# Altium schematic symbol library ST STM32F070X6 64PIN.SchLib: 1 symbol
Pins are listed as number, name and electrical type; pins without a type are passive.

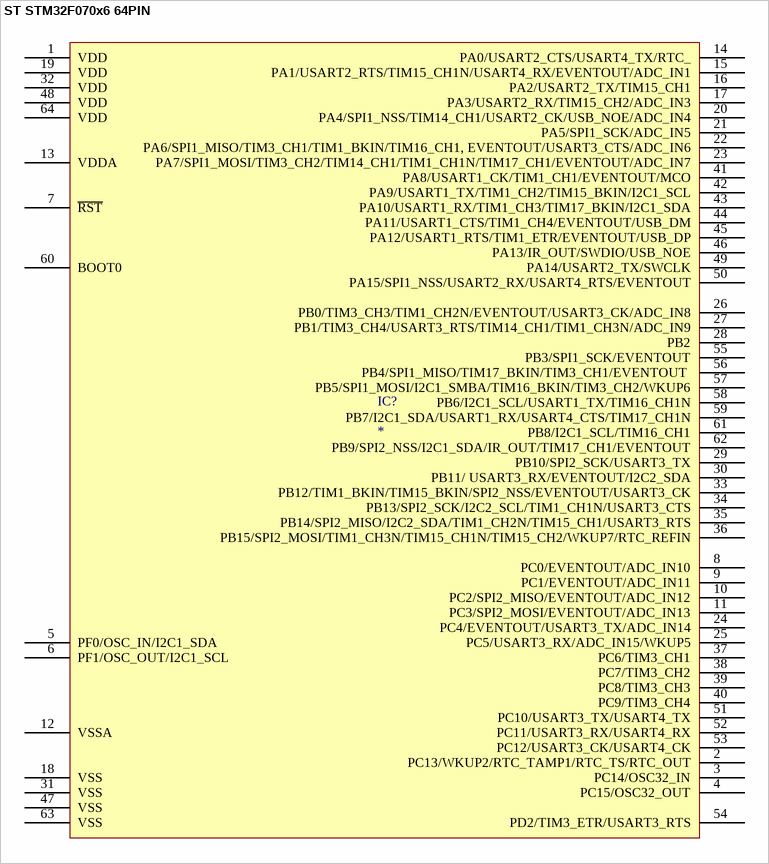
[diagram p0: symbol ST STM32F070x6 64PIN]

## ST STM32F070x6 64PIN
designator IC?
pins: 1 VDD, 2 PC13/WKUP2/RTC_TAMP1/RTC_TS/RTC_OUT, 3 PC14/OSC32_IN, 4 PC15/OSC32_OUT, 5 PF0/OSC_IN/I2C1_SDA, 6 PF1/OSC_OUT/I2C1_SCL, 7 ~{RST}, 8 PC0/EVENTOUT/ADC_IN10, 9 PC1/EVENTOUT/ADC_IN11, 10 PC2/SPI2_MISO/EVENTOUT/ADC_IN12, 11 PC3/SPI2_MOSI/EVENTOUT/ADC_IN13, 12 VSSA, 13 VDDA, 14 PA0/USART2_CTS/USART4_TX/RTC_, 15 PA1/USART2_RTS/TIM15_CH1N/USART4_RX/EVENTOUT/ADC_IN1, 16 PA2/USART2_TX/TIM15_CH1, 17 PA3/USART2_RX/TIM15_CH2/ADC_IN3, 18 VSS, 19 VDD, 20 PA4/SPI1_NSS/TIM14_CH1/USART2_CK/USB_NOE/ADC_IN4, 21 PA5/SPI1_SCK/ADC_IN5, 22 PA6/SPI1_MISO/TIM3_CH1/TIM1_BKIN/TIM16_CH1, EVENTOUT/USART3_CTS/ADC_IN6, 23 PA7/SPI1_MOSI/TIM3_CH2/TIM14_CH1/TIM1_CH1N/TIM17_CH1/EVENTOUT/ADC_IN7, 24 PC4/EVENTOUT/USART3_TX/ADC_IN14, 25 PC5/USART3_RX/ADC_IN15/WKUP5, 26 PB0/TIM3_CH3/TIM1_CH2N/EVENTOUT/USART3_CK/ADC_IN8, 27 PB1/TIM3_CH4/USART3_RTS/TIM14_CH1/TIM1_CH3N/ADC_IN9, 28 PB2, 29 PB10/SPI2_SCK/USART3_TX, 30 PB11/ USART3_RX/EVENTOUT/I2C2_SDA, 31 VSS, 32 VDD, 33 PB12/TIM1_BKIN/TIM15_BKIN/SPI2_NSS/EVENTOUT/USART3_CK, 34 PB13/SPI2_SCK/I2C2_SCL/TIM1_CH1N/USART3_CTS, 35 PB14/SPI2_MISO/I2C2_SDA/TIM1_CH2N/TIM15_CH1/USART3_RTS, 36 PB15/SPI2_MOSI/TIM1_CH3N/TIM15_CH1N/TIM15_CH2/WKUP7/RTC_REFIN, 37 PC6/TIM3_CH1, 38 PC7/TIM3_CH2, 39 PC8/TIM3_CH3, 40 PC9/TIM3_CH4, 41 PA8/USART1_CK/TIM1_CH1/EVENTOUT/MCO, 42 PA9/USART1_TX/TIM1_CH2/TIM15_BKIN/I2C1_SCL, 43 PA10/USART1_RX/TIM1_CH3/TIM17_BKIN/I2C1_SDA, 44 PA11/USART1_CTS/TIM1_CH4/EVENTOUT/USB_DM, 45 PA12/USART1_RTS/TIM1_ETR/EVENTOUT/USB_DP, 46 PA13/IR_OUT/SWDIO/USB_NOE, 47 VSS, 48 VDD, 49 PA14/USART2_TX/SWCLK, 50 PA15/SPI1_NSS/USART2_RX/USART4_RTS/EVENTOUT, 51 PC10/USART3_TX/USART4_TX, 52 PC11/USART3_RX/USART4_RX, 53 PC12/USART3_CK/USART4_CK, 54 PD2/TIM3_ETR/USART3_RTS, 55 PB3/SPI1_SCK/EVENTOUT, 56 PB4/SPI1_MISO/TIM17_BKIN/TIM3_CH1/EVENTOUT , 57 PB5/SPI1_MOSI/I2C1_SMBA/TIM16_BKIN/TIM3_CH2/WKUP6, 58 PB6/I2C1_SCL/USART1_TX/TIM16_CH1N, 59 PB7/I2C1_SDA/USART1_RX/USART4_CTS/TIM17_CH1N, 60 BOOT0, 61 PB8/I2C1_SCL/TIM16_CH1, 62 PB9/SPI2_NSS/I2C1_SDA/IR_OUT/TIM17_CH1/EVENTOUT, 63 VSS, 64 VDD